# Altium footprint library Custom_Footprints.PcbLib: 36 footprints (part 2 of 3)
Each footprint in its own frame and in the unit in brackets; x right, y up, seen from the top. Pads: shape width x height; smd on the part's side, far side on the other; paste and mask are expansions set on the pad; w line width, h text height; cw(c..) or ccw(c..) is an arc to the next point about the centre after c.
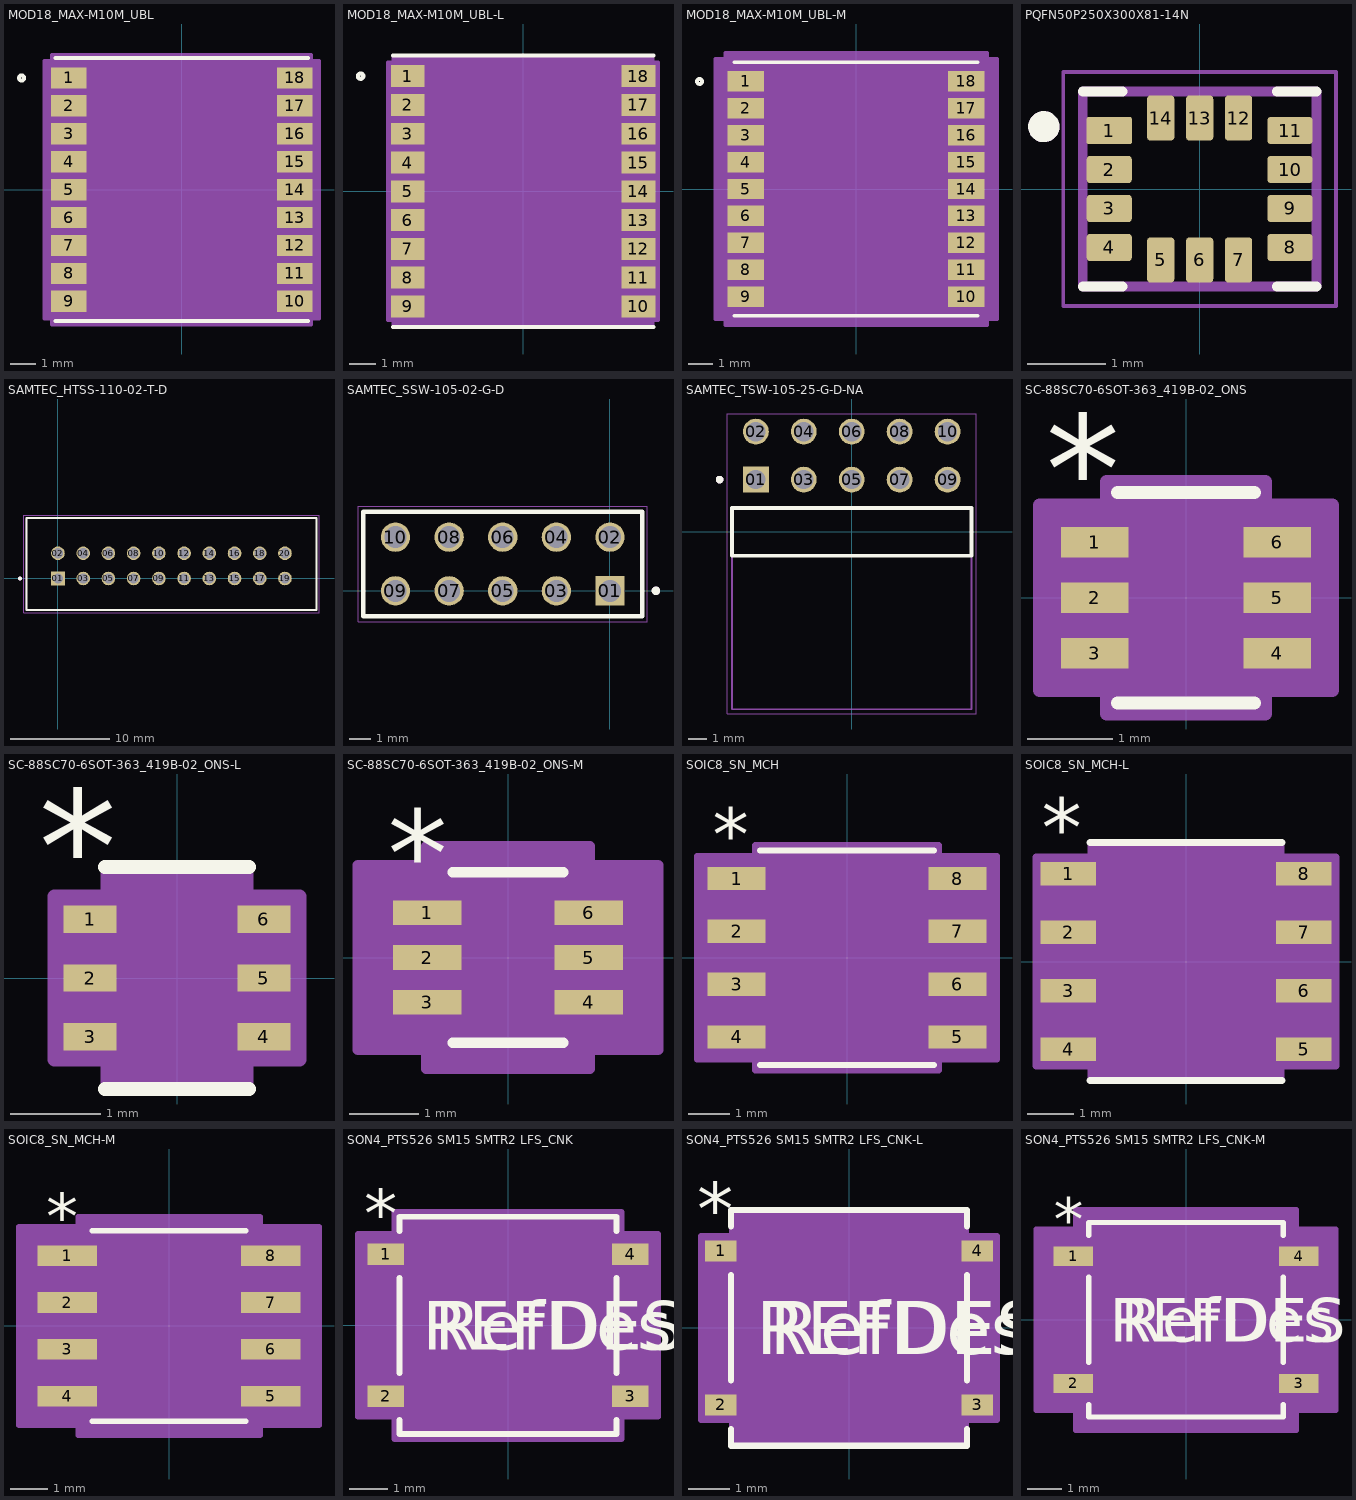
[diagram p1: the footprints below, top view; thin cyan lines are the x and y axes]

## MOD18_MAX-M10M_UBL [mil]
pads (18):
  rect 55x33 smd paste+0 mask+0: 1(-175.5,173.23) 2(-175.5,129.92) 3(-175.5,86.61) 4(-175.5,43.31) 5(-175.5,0) 6(-175.5,-43.31) 7(-175.5,-86.61) 8(-175.5,-129.92) 9(-175.5,-173.23) 10(175.5,-173.23) 11(175.5,-129.92) 12(175.5,-86.61) 13(175.5,-43.31) 14(175.5,0) 15(175.5,43.31) 16(175.5,86.61) 17(175.5,129.92) 18(175.5,173.23)
Top Overlay:
  circle w6: c-248.31,173.23 r4
  lines w6: -196,-204 196,-204 ; -196,204 196,204
  text ".Designator" at -137.5,-25 h50
Mechanical 13:
  circle w1: c-148,173.23 r3
  lines w1: -12,199 ccw(c0,199) 12,199 ; -191,-199 191,-199 191,199 -191,199 -191,-199
  text ".Designator" at -137.5,-25 h50
Mechanical 15:
  region: -201,-199.73 -213,-199.73 -213,199.73 -201,199.73 -201,209 201,209 201,199.73 213,199.73 213,-199.73 201,-199.73 201,-209 -201,-209
  lines w6: -213,-199.73 -213,199.73 -201,199.73 -201,209 201,209 201,199.73 213,199.73 213,-199.73 201,-199.73 201,-209 -201,-209 -201,-199.73 -213,-199.73
3D body "MOD18_MAX-M10M_UBL.step": height 106.1, standoff 0, extent -190.98,-199.02 190.98,199.02

## MOD18_MAX-M10M_UBL-L [mil]
pads (18):
  rect 51x33 smd paste+0 mask+0: 1(-173.5,173.23) 2(-173.5,129.92) 3(-173.5,86.61) 4(-173.5,43.31) 5(-173.5,0) 6(-173.5,-43.31) 7(-173.5,-86.61) 8(-173.5,-129.92) 9(-173.5,-173.23) 10(173.5,-173.23) 11(173.5,-129.92) 12(173.5,-86.61) 13(173.5,-43.31) 14(173.5,0) 15(173.5,43.31) 16(173.5,86.61) 17(173.5,129.92) 18(173.5,173.23)
Top Overlay:
  circle w6: c-244.31,173.23 r4
  lines w6: -196,-204 196,-204 ; -196,204 196,204
  text ".Designator" at -137.5,-25 h50
Mechanical 13:
  circle w1: c-148,173.23 r3
  lines w1: -12,199 ccw(c0,199) 12,199 ; -191,-199 191,-199 191,199 -191,199 -191,-199
  text ".Designator" at -137.5,-25 h50
Mechanical 15:
  region: -195,-193.73 -203,-193.73 -203,193.73 -195,193.73 -195,203 195,203 195,193.73 203,193.73 203,-193.73 195,-193.73 195,-203 -195,-203
  lines w6: -203,-193.73 -203,193.73 -195,193.73 -195,203 195,203 195,193.73 203,193.73 203,-193.73 195,-193.73 195,-203 -195,-203 -195,-193.73 -203,-193.73
3D body "MOD18_MAX-M10M_UBL.step": height 106.1, standoff 0, extent -190.98,-199.02 190.98,199.02

## MOD18_MAX-M10M_UBL-M [mil]
pads (18):
  rect 59x33 smd paste+0 mask+0: 1(-177.5,173.23) 2(-177.5,129.92) 3(-177.5,86.61) 4(-177.5,43.31) 5(-177.5,0) 6(-177.5,-43.31) 7(-177.5,-86.61) 8(-177.5,-129.92) 9(-177.5,-173.23) 10(177.5,-173.23) 11(177.5,-129.92) 12(177.5,-86.61) 13(177.5,-43.31) 14(177.5,0) 15(177.5,43.31) 16(177.5,86.61) 17(177.5,129.92) 18(177.5,173.23)
Top Overlay:
  circle w6: c-252.31,173.23 r4
  lines w6: -196,-204 196,-204 ; -196,204 196,204
  text ".Designator" at -137.5,-25 h50
Mechanical 13:
  circle w1: c-148,173.23 r3
  lines w1: -12,199 ccw(c0,199) 12,199 ; -191,-199 -191,199 191,199 191,-199 -191,-199
  text ".Designator" at -137.5,-25 h50
Mechanical 15:
  region: -211,-209.73 -227,-209.73 -227,209.73 -211,209.73 -211,219 211,219 211,209.73 227,209.73 227,-209.73 211,-209.73 211,-219 -211,-219
  lines w6: -227,-209.73 -211,-209.73 -211,-219 211,-219 211,-209.73 227,-209.73 227,209.73 211,209.73 211,219 -211,219 -211,209.73 -227,209.73 -227,-209.73
3D body "MOD18_MAX-M10M_UBL.step": height 106.1, standoff 0, extent -190.98,-199.02 190.98,199.02

## PQFN50P250X300X81-14N [mm]
height 0.81
pads (14):
  rrect14% 0.58x0.35 smd mask+0: 1(-1.16,0.75)
  rrect25% 0.58x0.35 smd mask+0: 2(-1.16,0.25) 3(-1.16,-0.25) 4(-1.16,-0.75) 8(1.16,-0.75) 9(1.16,-0.25) 10(1.16,0.25) 11(1.16,0.75)
  rrect25% 0.35x0.58 smd mask+0: 5(-0.5,-0.91) 6(0,-0.91) 7(0.5,-0.91) 12(0.5,0.91) 13(0,0.91) 14(-0.5,0.91)
Top Overlay:
  circle w0.2: c-2,0.8 r0.1
  lines w0.127: -1.5,-1.25 -0.99,-1.25 ; -1.5,1.25 -0.99,1.25 ; 0.99,-1.25 1.5,-1.25 ; 0.99,1.25 1.5,1.25
Top Solder:
  drawing of 14 lines, arcs and shapes, not listed
Mechanical 13:
  circle w0.2: c-2,0.8 r0.1
  lines w0.127: -1.5,-1.25 1.5,-1.25 1.5,1.25 -1.5,1.25 -1.5,-1.25
Mechanical 15:
  lines w0.05: -1.75,-1.5 1.75,-1.5 1.75,1.5 -1.75,1.5 -1.75,-1.5
3D body "step_temp.STEP": height 0.81, standoff 0, extent -1.5,-1.25 1.5,1.25

## SAMTEC_HTSS-110-02-T-D [mm]
pads (20):
  rect 1.37x1.37 hole 1.02: 01(0,0)
  round 1.37 hole 1.02: 02(0,2.54) 03(2.54,0) 04(2.54,2.54) 05(5.08,0) 06(5.08,2.54) 07(7.62,0) 08(7.62,2.54) 09(10.16,0) 10(10.16,2.54) 11(12.7,0) 12(12.7,2.54) 13(15.24,0) 14(15.24,2.54) 15(17.78,0) 16(17.78,2.54) 17(20.32,0) 18(20.32,2.54) 19(22.86,0) 20(22.86,2.54)
Top Overlay:
  circle w0.2: c-3.825,0 r0.1
  lines w0.2: -3.175,-3.175 -3.175,6.095 26.035,6.095 26.035,-3.175 -3.175,-3.175
Mechanical 13:
  circle w0.2: c-3.825,0 r0.1
  lines w0.1: -3.175,-3.175 -3.175,6.095 26.035,6.095 26.035,-3.175 -3.175,-3.175
Mechanical 15:
  lines w0.05: -3.425,-3.425 -3.425,6.345 26.285,6.345 26.285,-3.425 -3.425,-3.425

## SAMTEC_SSW-105-02-G-D [mm]
pads (10):
  rect 1.39x1.39 hole 1.04: 01(0,0)
  round 1.39 hole 1.04: 02(0,2.54) 03(-2.54,0) 04(-2.54,2.54) 05(-5.08,0) 06(-5.08,2.54) 07(-7.62,0) 08(-7.62,2.54) 09(-10.16,0) 10(-10.16,2.54)
Top Overlay:
  circle w0.2: c2.175,0 r0.1
  lines w0.2: -11.685,-1.206 -11.685,3.746 1.525,3.746 1.525,-1.206 -11.685,-1.206
Mechanical 13:
  circle w0.2: c2.175,0 r0.1
  lines w0.1: -11.685,-1.206 -11.685,3.746 ; -11.685,-1.206 1.525,-1.206 ; -11.685,-1.206 -11.685,3.746 ; -11.685,3.746 1.525,3.746 ; -11.685,3.746 1.525,3.746 ; 1.525,-1.206 1.525,3.746 ; 1.525,-1.206 1.525,3.746
Mechanical 15:
  lines w0.05: -11.935,-1.456 -11.935,3.996 1.775,3.996 1.775,-1.456 -11.935,-1.456

## SAMTEC_TSW-105-25-G-D-NA [mm]
pads (10):
  rect 1.37x1.37 / inner round 1.37 / far side rect 1.37x1.37 hole 1.02 mask+0.102: 01(-5.08,2.77)
  round 1.37 hole 1.02 mask+0.102: 02(-5.08,5.31) 03(-2.54,2.77) 04(-2.54,5.31) 05(0,2.77) 06(0,5.31) 07(2.54,2.77) 08(2.54,5.31) 09(5.08,2.77) 10(5.08,5.31)
Top Overlay:
  circle w0.2: c-7,2.77 r0.1
  lines w0.2: -6.35,-1.27 6.35,-1.27 6.35,1.27 -6.35,1.27 -6.35,-1.27
Mechanical 13:
  circle w0.2: c-7,2.77 r0.1
  lines w0.1: -6.35,-1.27 -6.35,-9.4 6.35,-9.4 6.35,-1.27 ; -6.35,-1.27 6.35,-1.27 ; -6.35,-1.27 -6.35,1.27 6.35,1.27 6.35,-1.27
Mechanical 15:
  lines w0.05: -6.6,-9.65 6.6,-9.65 6.6,6.245 -6.6,6.245 -6.6,-9.65

## SC-88SC70-6SOT-363_419B-02_ONS [mil]
pads (6):
  rect 31x14 smd paste+0 mask+0: 1(-42,25.59) 2(-42,0) 3(-42,-25.59) 4(42,-25.59) 5(42,0) 6(42,25.59)
Top Overlay:
  lines w6: -31.5,-48.5 31.5,-48.5 ; -31.5,48.5 31.5,48.5
  text "*" at -64.5,34.59 h50
Mechanical 13:
  lines w0: -12,43.5 ccw(c0,43.5) 12,43.5
  lines w1: -43.5,-31.59 -43.5,-19.59 -26.5,-19.59 -26.5,-31.59 -43.5,-31.59 ; -43.5,-6 -43.5,6 -26.5,6 -26.5,-6 -43.5,-6 ; -43.5,19.59 -43.5,31.59 -26.5,31.59 -26.5,19.59 -43.5,19.59 ; -26.5,-43.5 26.5,-43.5 26.5,43.5 -26.5,43.5 -26.5,-43.5 ; 26.5,-31.59 26.5,-19.59 43.5,-19.59 43.5,-31.59 26.5,-31.59 ; 26.5,-6 26.5,6 43.5,6 43.5,-6 26.5,-6 ; 26.5,19.59 26.5,31.59 43.5,31.59 43.5,19.59 26.5,19.59
  text "*" at -24,-9.5 h50
Mechanical 15:
  region: -36.5,-42.59 -67.5,-42.59 -67.5,42.59 -36.5,42.59 -36.5,53.5 36.5,53.5 36.5,42.59 67.5,42.59 67.5,-42.59 36.5,-42.59 36.5,-53.5 -36.5,-53.5
  lines w6: -67.5,-42.59 -67.5,42.59 -36.5,42.59 -36.5,53.5 36.5,53.5 36.5,42.59 67.5,42.59 67.5,-42.59 36.5,-42.59 36.5,-53.5 -36.5,-53.5 -36.5,-42.59 -67.5,-42.59
3D body "SC-88SC70-6SOT-363_419B-02_ONS.step": height 43.11, standoff 0, extent -43.5,-43.5 43.5,43.5

## SC-88SC70-6SOT-363_419B-02_ONS-L [mil]
pads (6):
  rect 23x12 smd paste+0 mask+0: 1(-38,25.59) 2(-38,0) 3(-38,-25.59) 4(38,-25.59) 5(38,0) 6(38,25.59)
Top Overlay:
  lines w6: -31.5,-48.5 31.5,-48.5 ; -31.5,48.5 31.5,48.5
  text "*" at -60.5,32.59 h50
Mechanical 13:
  lines w0: -12,43.5 ccw(c0,43.5) 12,43.5
  lines w1: -43.5,-31.59 -43.5,-19.59 -26.5,-19.59 -26.5,-31.59 -43.5,-31.59 ; -43.5,-6 -43.5,6 -26.5,6 -26.5,-6 -43.5,-6 ; -43.5,19.59 -43.5,31.59 -26.5,31.59 -26.5,19.59 -43.5,19.59 ; -26.5,-43.5 26.5,-43.5 26.5,43.5 -26.5,43.5 -26.5,-43.5 ; 26.5,-31.59 26.5,-19.59 43.5,-19.59 43.5,-31.59 26.5,-31.59 ; 26.5,-6 26.5,6 43.5,6 43.5,-6 26.5,-6 ; 26.5,19.59 26.5,31.59 43.5,31.59 43.5,19.59 26.5,19.59
  text "*" at -24,-9.5 h50
Mechanical 15:
  region: -30.5,-35.59 -53.5,-35.59 -53.5,35.59 -30.5,35.59 -30.5,47.5 30.5,47.5 30.5,35.59 53.5,35.59 53.5,-35.59 30.5,-35.59 30.5,-47.5 -30.5,-47.5
  lines w6: -53.5,-35.59 -53.5,35.59 -30.5,35.59 -30.5,47.5 30.5,47.5 30.5,35.59 53.5,35.59 53.5,-35.59 30.5,-35.59 30.5,-47.5 -30.5,-47.5 -30.5,-35.59 -53.5,-35.59
3D body "SC-88SC70-6SOT-363_419B-02_ONS.step": height 43.11, standoff 0, extent -43.5,-43.5 43.5,43.5

## SC-88SC70-6SOT-363_419B-02_ONS-M [mil]
pads (6):
  rect 39x14 smd paste+0 mask+0: 1(-46,25.59) 2(-46,0) 3(-46,-25.59) 4(46,-25.59) 5(46,0) 6(46,25.59)
Top Overlay:
  lines w6: -31.5,-48.5 31.5,-48.5 ; -31.5,48.5 31.5,48.5
  text "*" at -68.5,34.59 h50
Mechanical 13:
  lines w0: -12,43.5 ccw(c0,43.5) 12,43.5
  lines w1: -43.5,-31.59 -26.5,-31.59 -26.5,-19.59 -43.5,-19.59 -43.5,-31.59 ; -43.5,-6 -26.5,-6 -26.5,6 -43.5,6 -43.5,-6 ; -43.5,19.59 -26.5,19.59 -26.5,31.59 -43.5,31.59 -43.5,19.59 ; -26.5,-43.5 -26.5,43.5 26.5,43.5 26.5,-43.5 -26.5,-43.5 ; 26.5,-31.59 43.5,-31.59 43.5,-19.59 26.5,-19.59 26.5,-31.59 ; 26.5,-6 43.5,-6 43.5,6 26.5,6 26.5,-6 ; 26.5,19.59 43.5,19.59 43.5,31.59 26.5,31.59 26.5,19.59
  text "*" at -24,-9.5 h50
Mechanical 15:
  region: -46.5,-52.59 -85.5,-52.59 -85.5,52.59 -46.5,52.59 -46.5,63.5 46.5,63.5 46.5,52.59 85.5,52.59 85.5,-52.59 46.5,-52.59 46.5,-63.5 -46.5,-63.5
  lines w6: -85.5,-52.59 -46.5,-52.59 -46.5,-63.5 46.5,-63.5 46.5,-52.59 85.5,-52.59 85.5,52.59 46.5,52.59 46.5,63.5 -46.5,63.5 -46.5,52.59 -85.5,52.59 -85.5,-52.59
3D body "SC-88SC70-6SOT-363_419B-02_ONS.step": height 43.11, standoff 0, extent -43.5,-43.5 43.5,43.5

## SOIC8_SN_MCH [mil]
pads (8):
  rect 55x22 smd paste+0 mask+0: 1(-104.5,75) 2(-104.5,25) 3(-104.5,-25) 4(-104.5,-75) 5(104.5,-75) 6(104.5,-25) 7(104.5,25) 8(104.5,75)
Top Overlay:
  lines w6: -82,-101.5 82,-101.5 ; -82,101.5 82,101.5
  text "*" at -127,92 h50
  text ".Designator" at -137.5,-25 h50
Mechanical 13:
  lines w1: -12,96.5 ccw(c0,96.5) 12,96.5 ; -118,-85 -77,-85 -77,-65 -118,-65 -118,-85 ; -118,-35 -77,-35 -77,-15 -118,-15 -118,-35 ; -118,15 -77,15 -77,35 -118,35 -118,15 ; -118,65 -77,65 -77,85 -118,85 -118,65 ; -77,-96.5 -77,96.5 77,96.5 77,-96.5 -77,-96.5 ; 77,-85 118,-85 118,-65 77,-65 77,-85 ; 77,-35 118,-35 118,-15 77,-15 77,-35 ; 77,15 118,15 118,35 77,35 77,15 ; 77,65 118,65 118,85 77,85 77,65
  text ".Designator" at -137.5,-25 h50
  text "*" at -74.5,43.5 h50
Mechanical 15:
  region: -87,-96 -142,-96 -142,96 -87,96 -87,106.5 87,106.5 87,96 142,96 142,-96 87,-96 87,-106.5 -87,-106.5
  lines w6: -142,-96 -87,-96 -87,-106.5 87,-106.5 87,-96 142,-96 142,96 87,96 87,106.5 -87,106.5 -87,96 -142,96 -142,-96
3D body "SOIC8_SN_MCH.step": height 69.09, standoff 0, extent -117.99,-96.5 117.99,96.5

## SOIC8_SN_MCH-L [mil]
pads (8):
  rect 47x20 smd paste+0 mask+0: 1(-100.5,75) 2(-100.5,25) 3(-100.5,-25) 4(-100.5,-75) 5(100.5,-75) 6(100.5,-25) 7(100.5,25) 8(100.5,75)
Top Overlay:
  lines w6: -82,-101.5 82,-101.5 ; -82,101.5 82,101.5
  text "*" at -123,90 h50
  text ".Designator" at -137.5,-25 h50
Mechanical 13:
  lines w1: -12,96.5 ccw(c0,96.5) 12,96.5 ; -118,-85 -77,-85 -77,-65 -118,-65 -118,-85 ; -118,-35 -77,-35 -77,-15 -118,-15 -118,-35 ; -118,15 -77,15 -77,35 -118,35 -118,15 ; -118,65 -77,65 -77,85 -118,85 -118,65 ; -77,-96.5 -77,96.5 77,96.5 77,-96.5 -77,-96.5 ; 77,-85 118,-85 118,-65 77,-65 77,-85 ; 77,-35 118,-35 118,-15 77,-15 77,-35 ; 77,15 118,15 118,35 77,35 77,15 ; 77,65 118,65 118,85 77,85 77,65
  text ".Designator" at -137.5,-25 h50
  text "*" at -74.5,43.5 h50
Mechanical 15:
  region: -81,-89 -128,-89 -128,89 -81,89 -81,100.5 81,100.5 81,89 128,89 128,-89 81,-89 81,-100.5 -81,-100.5
  lines w6: -128,-89 -81,-89 -81,-100.5 81,-100.5 81,-89 128,-89 128,89 81,89 81,100.5 -81,100.5 -81,89 -128,89 -128,-89
3D body "SOIC8_SN_MCH.step": height 69.09, standoff 0, extent -117.99,-96.5 117.99,96.5

## SOIC8_SN_MCH-M [mil]
pads (8):
  rect 63x22 smd paste+0 mask+0: 1(-108.5,75) 2(-108.5,25) 3(-108.5,-25) 4(-108.5,-75) 5(108.5,-75) 6(108.5,-25) 7(108.5,25) 8(108.5,75)
Top Overlay:
  lines w6: -82,-101.5 82,-101.5 ; -82,101.5 82,101.5
  text "*" at -131,92 h50
  text ".Designator" at -137.5,-25 h50
Mechanical 13:
  lines w1: -12,96.5 ccw(c0,96.5) 12,96.5 ; -118,-85 -77,-85 -77,-65 -118,-65 -118,-85 ; -118,-35 -77,-35 -77,-15 -118,-15 -118,-35 ; -118,15 -77,15 -77,35 -118,35 -118,15 ; -118,65 -77,65 -77,85 -118,85 -118,65 ; -77,-96.5 -77,96.5 77,96.5 77,-96.5 -77,-96.5 ; 77,-85 118,-85 118,-65 77,-65 77,-85 ; 77,-35 118,-35 118,-15 77,-15 77,-35 ; 77,15 118,15 118,35 77,35 77,15 ; 77,65 118,65 118,85 77,85 77,65
  text ".Designator" at -137.5,-25 h50
  text "*" at -74.5,43.5 h50
Mechanical 15:
  region: -97,-106 -160,-106 -160,106 -97,106 -97,116.5 97,116.5 97,106 160,106 160,-106 97,-106 97,-116.5 -97,-116.5
  lines w6: -160,-106 -97,-106 -97,-116.5 97,-116.5 97,-106 160,-106 160,106 97,106 97,116.5 -97,116.5 -97,106 -160,106 -160,-106
3D body "SOIC8_SN_MCH.step": height 69.09, standoff 0, extent -117.99,-96.5 117.99,96.5

## SON4_PTS526 SM15 SMTR2 LFS_CNK [mil]
pads (4):
  rect 37.42x22 smd paste+0 mask+0: 1(-125.21,72.83) 2(-125.21,-72.83) 3(125.21,-72.83) 4(125.21,72.83)
Top Overlay:
  lines w6: -111.5,-96.93 -111.5,-111.5 111.5,-111.5 111.5,-96.93 ; -111.5,-48.73 -111.5,48.73 ; -111.5,96.93 -111.5,111.5 111.5,111.5 111.5,96.93 ; 111.5,-48.73 111.5,48.73
  text "REFDES" at -87.5,-25 h50
  text "*" at -147.71,89.83 h50
  text "RefDes" at -75,-25 h50
Mechanical 13:
  lines w0: -12,106.5 ccw(c0,106.5) 12,106.5
  lines w1: -129.92,-82.83 -129.92,-62.83 -106.5,-62.83 -106.5,-82.83 -129.92,-82.83 ; -129.92,62.83 -129.92,82.83 -106.5,82.83 -106.5,62.83 -129.92,62.83 ; -106.5,-106.5 106.5,-106.5 106.5,106.5 -106.5,106.5 -106.5,-106.5 ; 106.5,-82.83 106.5,-62.83 129.92,-62.83 129.92,-82.83 106.5,-82.83 ; 106.5,62.83 106.5,82.83 129.92,82.83 129.92,62.83 106.5,62.83
  text "*" at -104,53.5 h50
  text "RefDes2" at -87.5,-25 h50
Mechanical 15:
  region: -116.5,-93.83 -153.92,-93.83 -153.92,93.83 -116.5,93.83 -116.5,116.5 116.5,116.5 116.5,93.83 153.92,93.83 153.92,-93.83 116.5,-93.83 116.5,-116.5 -116.5,-116.5
  lines w6: -153.92,-93.83 -153.92,93.83 -116.5,93.83 -116.5,116.5 116.5,116.5 116.5,93.83 153.92,93.83 153.92,-93.83 116.5,-93.83 116.5,-116.5 -116.5,-116.5 -116.5,-93.83 -153.92,-93.83
3D body "SON4_PTS526SM15SMTR2LFS_CNK.step": height 63.11, standoff 0, extent -129.92,-106.5 129.92,106.5

## SON4_PTS526 SM15 SMTR2 LFS_CNK-L [mil]
pads (4):
  rect 29.42x20 smd paste+0 mask+0: 1(-121.21,72.83) 2(-121.21,-72.83) 3(121.21,-72.83) 4(121.21,72.83)
Top Overlay:
  lines w6: -111.5,-95.93 -111.5,-111.5 111.5,-111.5 111.5,-95.93 ; -111.5,-49.73 -111.5,49.73 ; -111.5,95.93 -111.5,111.5 111.5,111.5 111.5,95.93 ; 111.5,-49.73 111.5,49.73
  text "RefDes" at -75,-25 h50
  text "*" at -143.71,87.83 h50
  text "REFDES" at -87.5,-25 h50
Mechanical 13:
  lines w0: -12,106.5 ccw(c0,106.5) 12,106.5
  lines w1: -129.92,-82.83 -106.5,-82.83 -106.5,-62.83 -129.92,-62.83 -129.92,-82.83 ; -129.92,62.83 -106.5,62.83 -106.5,82.83 -129.92,82.83 -129.92,62.83 ; -106.5,-106.5 -106.5,106.5 106.5,106.5 106.5,-106.5 -106.5,-106.5 ; 106.5,-82.83 129.92,-82.83 129.92,-62.83 106.5,-62.83 106.5,-82.83 ; 106.5,62.83 129.92,62.83 129.92,82.83 106.5,82.83 106.5,62.83
  text "RefDes2" at -87.5,-25 h50
  text "*" at -104,53.5 h50
Mechanical 15:
  region: -110.5,-86.83 -139.92,-86.83 -139.92,86.83 -110.5,86.83 -110.5,110.5 110.5,110.5 110.5,86.83 139.92,86.83 139.92,-86.83 110.5,-86.83 110.5,-110.5 -110.5,-110.5
  lines w6: -139.92,-86.83 -110.5,-86.83 -110.5,-110.5 110.5,-110.5 110.5,-86.83 139.92,-86.83 139.92,86.83 110.5,86.83 110.5,110.5 -110.5,110.5 -110.5,86.83 -139.92,86.83 -139.92,-86.83
3D body: height 10, standoff 0, extent 0,0 10,10

## SON4_PTS526 SM15 SMTR2 LFS_CNK-M [mil]
pads (4):
  rect 45.42x22 smd paste+0 mask+0: 1(-129.21,72.83) 2(-129.21,-72.83) 3(129.21,-72.83) 4(129.21,72.83)
Top Overlay:
  lines w6: -111.5,-96.93 -111.5,-111.5 111.5,-111.5 111.5,-96.93 ; -111.5,-48.73 -111.5,48.73 ; -111.5,96.93 -111.5,111.5 111.5,111.5 111.5,96.93 ; 111.5,-48.73 111.5,48.73
  text "RefDes" at -75,-25 h50
  text "*" at -151.71,89.83 h50
  text "REFDES" at -87.5,-25 h50
Mechanical 13:
  lines w0: -12,106.5 ccw(c0,106.5) 12,106.5
  lines w1: -129.92,-82.83 -106.5,-82.83 -106.5,-62.83 -129.92,-62.83 -129.92,-82.83 ; -129.92,62.83 -106.5,62.83 -106.5,82.83 -129.92,82.83 -129.92,62.83 ; -106.5,-106.5 -106.5,106.5 106.5,106.5 106.5,-106.5 -106.5,-106.5 ; 106.5,-82.83 129.92,-82.83 129.92,-62.83 106.5,-62.83 106.5,-82.83 ; 106.5,62.83 129.92,62.83 129.92,82.83 106.5,82.83 106.5,62.83
  text "RefDes2" at -87.5,-25 h50
  text "*" at -104,53.5 h50
Mechanical 15:
  region: -126.5,-103.83 -171.92,-103.83 -171.92,103.83 -126.5,103.83 -126.5,126.5 126.5,126.5 126.5,103.83 171.92,103.83 171.92,-103.83 126.5,-103.83 126.5,-126.5 -126.5,-126.5
  lines w6: -171.92,-103.83 -126.5,-103.83 -126.5,-126.5 126.5,-126.5 126.5,-103.83 171.92,-103.83 171.92,103.83 126.5,103.83 126.5,126.5 -126.5,126.5 -126.5,103.83 -171.92,103.83 -171.92,-103.83
3D body: height 10, standoff 0, extent 0,0 10,10